# EAGLE library part STM32F10X_48P (library tmxk)
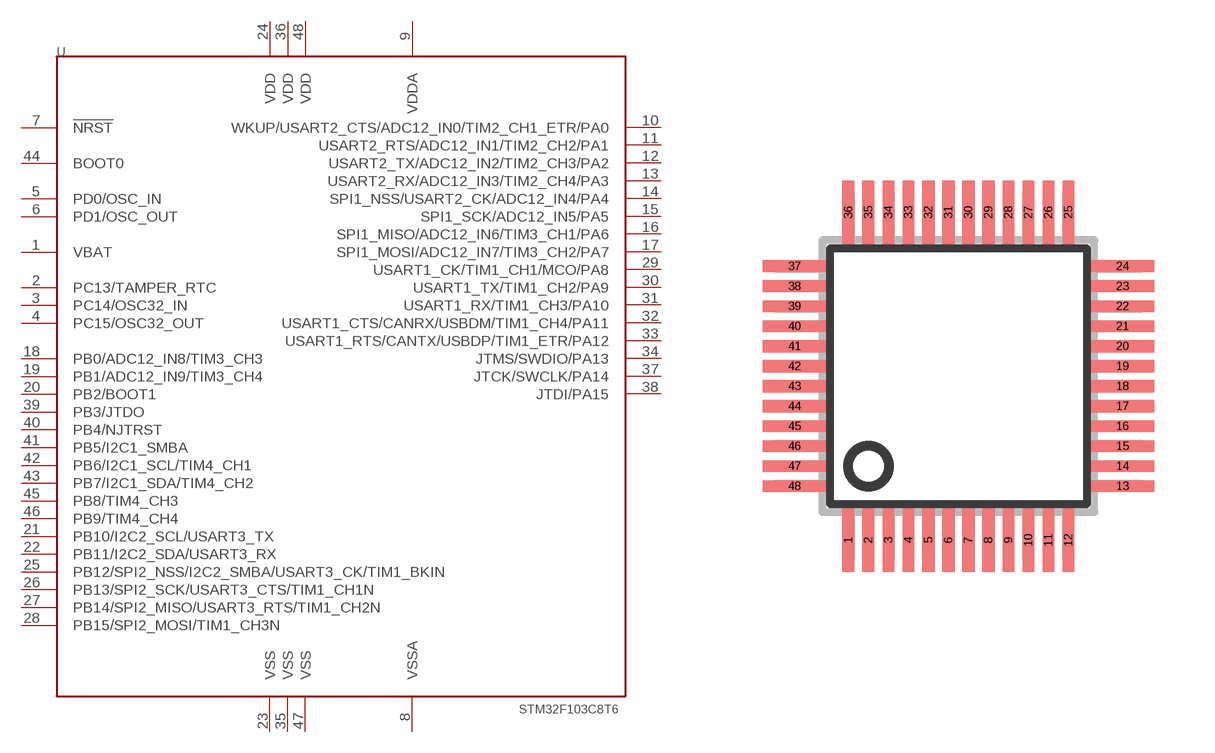
[diagram p2: symbol with the pads of LQFP48; footprint LQFP48]

Designator prefix U

## STM32F10X_48P  [LQFP48]
1  VBAT
2  PC13/TAMPER_RTC
3  PC14/OSC32_IN
4  PC15/OSC32_OUT
5  PD0/OSC_IN
6  PD1/OSC_OUT
7  !NRST
8  VSSA
9  VDDA
10  WKUP/USART2_CTS/ADC12_IN0/TIM2_CH1_ETR/PA0
11  USART2_RTS/ADC12_IN1/TIM2_CH2/PA1
12  USART2_TX/ADC12_IN2/TIM2_CH3/PA2
13  USART2_RX/ADC12_IN3/TIM2_CH4/PA3
14  SPI1_NSS/USART2_CK/ADC12_IN4/PA4
15  SPI1_SCK/ADC12_IN5/PA5
16  SPI1_MISO/ADC12_IN6/TIM3_CH1/PA6
17  SPI1_MOSI/ADC12_IN7/TIM3_CH2/PA7
18  PB0/ADC12_IN8/TIM3_CH3
19  PB1/ADC12_IN9/TIM3_CH4
20  PB2/BOOT1
21  PB10/I2C2_SCL/USART3_TX
22  PB11/I2C2_SDA/USART3_RX
23  VSS
24  VDD
25  PB12/SPI2_NSS/I2C2_SMBA/USART3_CK/TIM1_BKIN
26  PB13/SPI2_SCK/USART3_CTS/TIM1_CH1N
27  PB14/SPI2_MISO/USART3_RTS/TIM1_CH2N
28  PB15/SPI2_MOSI/TIM1_CH3N
29  USART1_CK/TIM1_CH1/MCO/PA8
30  USART1_TX/TIM1_CH2/PA9
31  USART1_RX/TIM1_CH3/PA10
32  USART1_CTS/CANRX/USBDM/TIM1_CH4/PA11
33  USART1_RTS/CANTX/USBDP/TIM1_ETR/PA12
34  JTMS/SWDIO/PA13
35  VSS
36  VDD
37  JTCK/SWCLK/PA14
38  JTDI/PA15
39  PB3/JTDO
40  PB4/NJTRST
41  PB5/I2C1_SMBA
42  PB6/I2C1_SCL/TIM4_CH1
43  PB7/I2C1_SDA/TIM4_CH2
44  BOOT0
45  PB8/TIM4_CH3
46  PB9/TIM4_CH4
47  VSS
48  VDD

## Footprint LQFP48 (pad centres in mm)
QFP48 shrink quad flat pack, square
smd 0.3 x 1.6: 1 -2.75,-4.1; 2 -2.25,-4.1; 3 -1.75,-4.1; 4 -1.25,-4.1; 5 -0.75,-4.1; 6 -0.25,-4.1; 7 0.25,-4.1; 8 0.75,-4.1; 9 1.25,-4.1; 10 1.75,-4.1; 11 2.25,-4.1; 12 2.75,-4.1; 25 2.75,4.1; 26 2.25,4.1; 27 1.75,4.1; 28 1.25,4.1; 29 0.75,4.1; 30 0.25,4.1; 31 -0.25,4.1; 32 -0.75,4.1; 33 -1.25,4.1; 34 -1.75,4.1; 35 -2.25,4.1; 36 -2.75,4.1
smd 1.6 x 0.3: 13 4.1,-2.75; 14 4.1,-2.25; 15 4.1,-1.75; 16 4.1,-1.25; 17 4.1,-0.75; 18 4.1,-0.25; 19 4.1,0.25; 20 4.1,0.75; 21 4.1,1.25; 22 4.1,1.75; 23 4.1,2.25; 24 4.1,2.75; 37 -4.1,2.75; 38 -4.1,2.25; 39 -4.1,1.75; 40 -4.1,1.25; 41 -4.1,0.75; 42 -4.1,0.25; 43 -4.1,-0.25; 44 -4.1,-0.75; 45 -4.1,-1.25; 46 -4.1,-1.75; 47 -4.1,-2.25; 48 -4.1,-2.75